# EAGLE library part AVR_JTAG (library Custom)
PIN HEADER
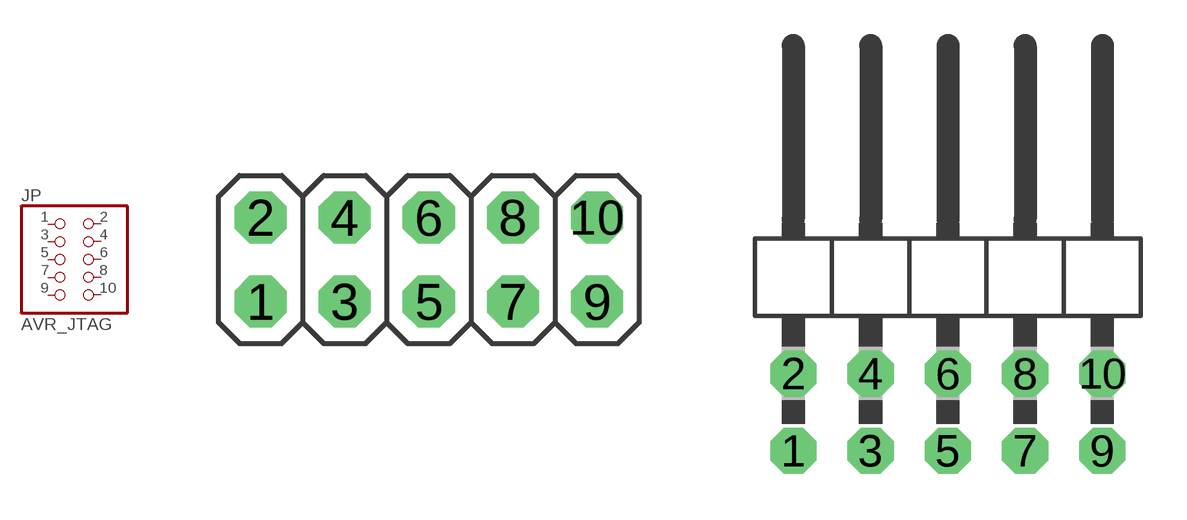
[diagram p52: symbol with the pads of 2X05; footprints 2X05, 2X05/90]

Designator prefix JP

## AVR_JTAG  [2X05]
1  TCK  pas
2  GND  pwr
3  TDO  pas
4  VREF  pwr
5  TMS  pas
6  NSRST  pas
7  NC  nc
8  NTRST  pas
9  TDI  pas
10  GND  pwr

## AVR_JTAG/90  [2X05/90]
Pads as for 2X05

## AVR_JTAG/H  [FE05-2]

## Footprint 2X05 (pad centres in mm)
PIN HEADER
drill 0.787 pad 1.575 octagon: 1 -5.08,-1.27; 2 -5.08,1.27; 3 -2.54,-1.27; 4 -2.54,1.27; 5 0,-1.27; 6 0,1.27; 7 2.54,-1.27; 8 2.54,1.27; 9 5.08,-1.27; 10 5.08,1.27

## Footprint 2X05/90 (pad centres in mm)
PIN HEADER
drill 1.016 octagon: 1 -5.08,-6.35; 2 -5.08,-3.81; 3 -2.54,-6.35; 4 -2.54,-3.81; 5 0,-6.35; 6 0,-3.81; 7 2.54,-6.35; 8 2.54,-3.81; 9 5.08,-6.35; 10 5.08,-3.81

## Footprint FE05-2 (pad centres in mm)
FEMALE HEADER
drill 0.914: 1 -5.08,1.27
drill 0.914 octagon: 2 -5.08,-1.27; 3 -2.54,1.27; 4 -2.54,-1.27; 5 0,1.27; 6 0,-1.27; 7 2.54,1.27; 8 2.54,-1.27; 9 5.08,1.27; 10 5.08,-1.27